# Altium footprint library SDR0403.PcbLib: 1 footprints
Each footprint in its own frame and in the unit in brackets; x right, y up, seen from the top. Pads: shape width x height; smd on the part's side, far side on the other; paste and mask are expansions set on the pad; w line width, h text height; cw(c..) or ccw(c..) is an arc to the next point about the centre after c.
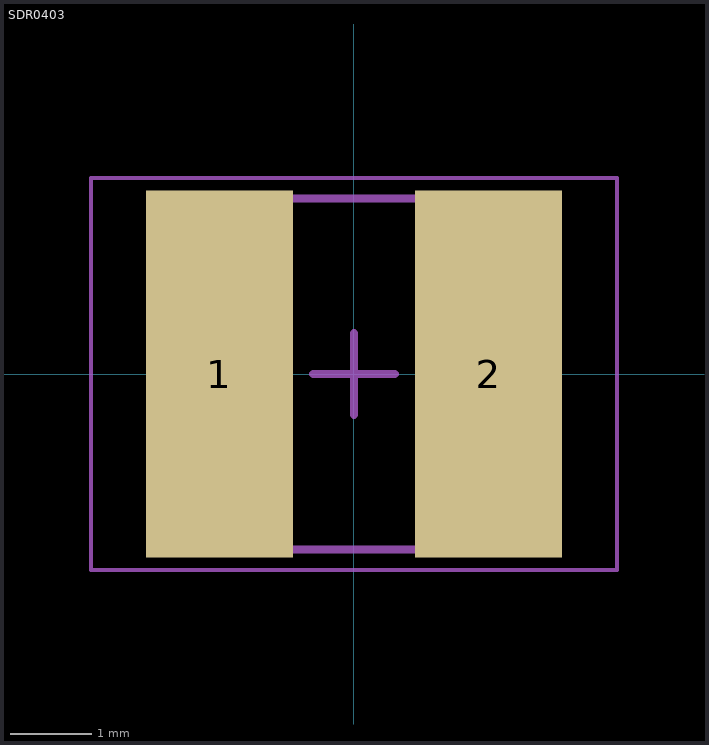
[diagram p0: the footprint, top view; thin cyan lines are the x and y axes]

## SDR0403 [mm] "Precision Wire Wound Inductor, 2-Leads, Body 4.50x4.00mm, IPC Medium Density"
height 3.2
pads (2):
  rect 1.8x4.5 smd: 1(-1.65,0) 2(1.65,0)
Mechanical 13:
  lines w0.1: -2.4,-2.15 -2.4,2.15 2.4,2.15 2.4,-2.15 -2.4,-2.15
Mechanical 15:
  lines w0.05: -3.225,-2.4 -3.225,2.4 3.225,2.4 3.225,-2.4 -3.225,-2.4
  lines w0.1: -0.5,0 0.5,0 ; 0,-0.5 0,0.5
3D body "SDR0403.step": height 3.3, standoff 0, extent -2.35,-2 2.35,2